# Altium footprint library COMPONENTES.PcbLib: 191 footprints (part 6 of 12)
Each footprint in its own frame and in the unit in brackets; x right, y up, seen from the top. Pads: shape width x height; smd on the part's side, far side on the other; paste and mask are expansions set on the pad; w line width, h text height; cw(c..) or ccw(c..) is an arc to the next point about the centre after c.
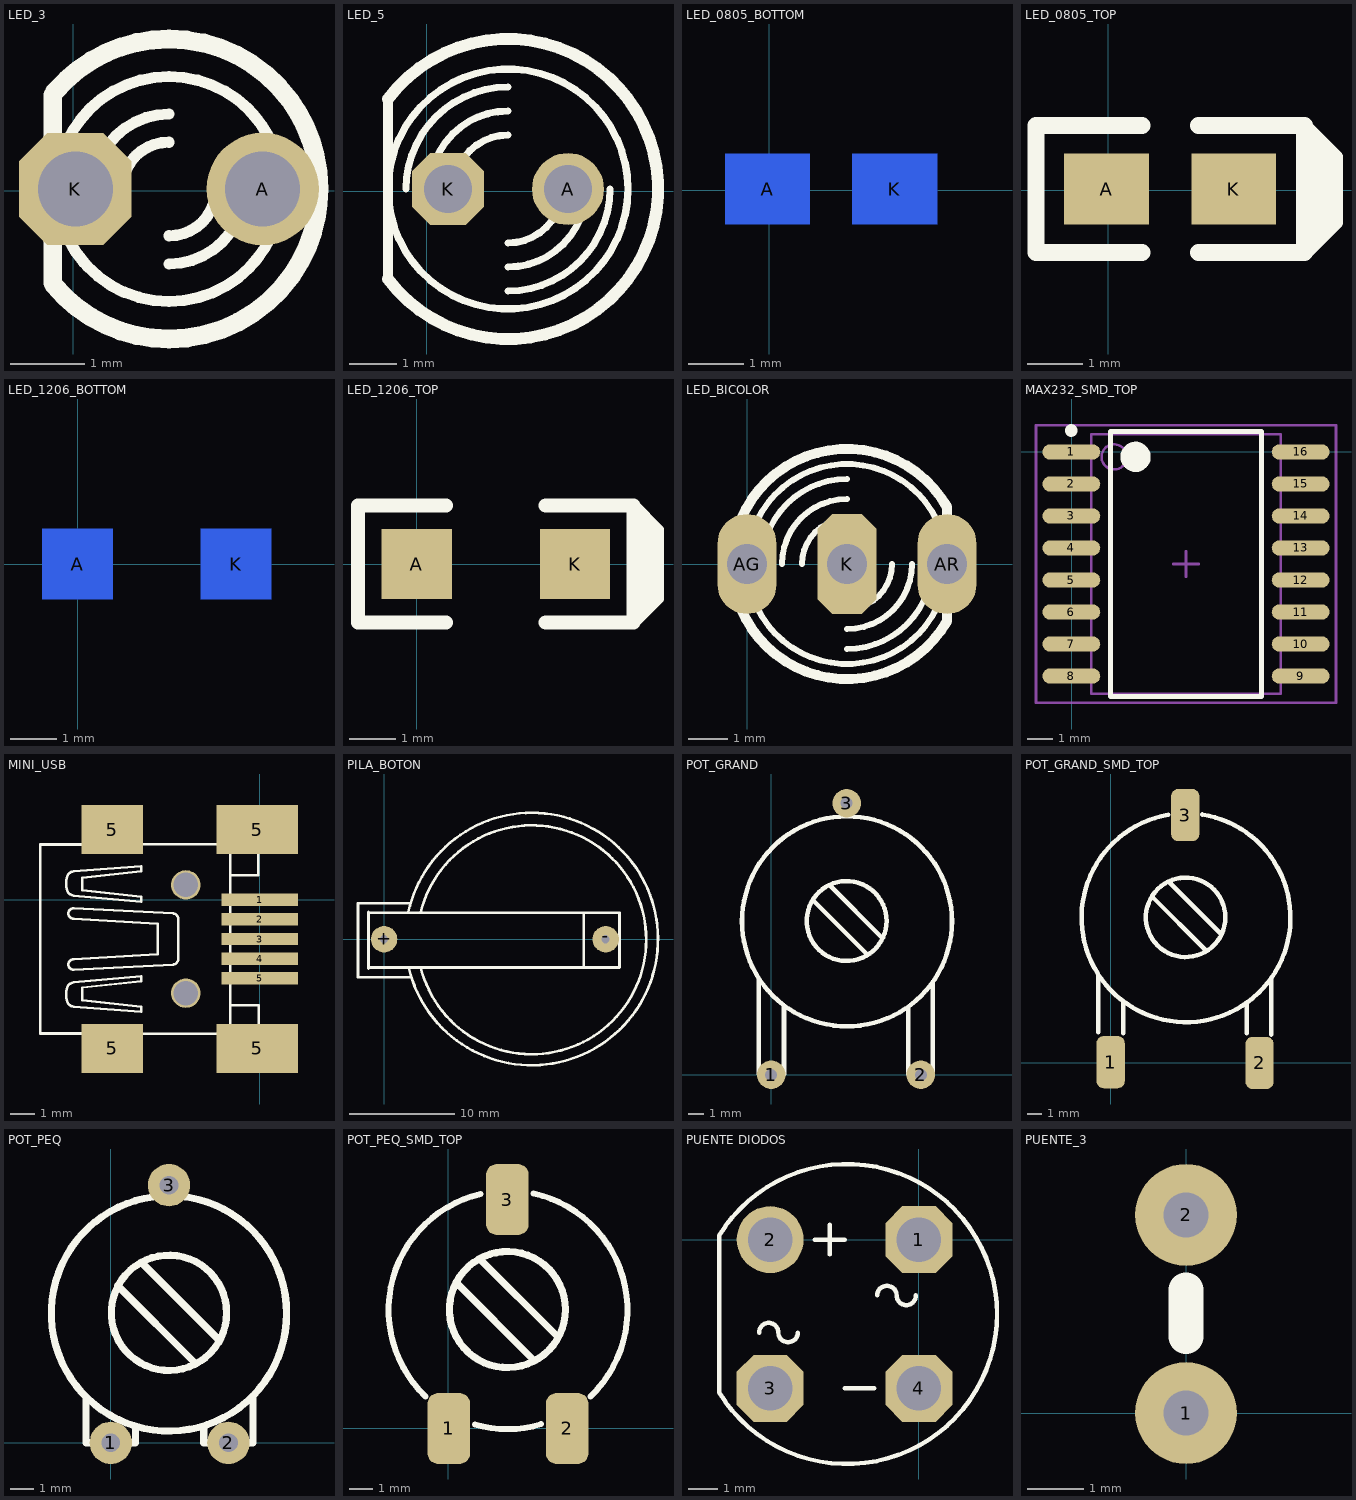
[diagram p5: the footprints below, top view; thin cyan lines are the x and y axes]

## LED_3 [mil]
height 104.33
pads (2):
  round 60 hole 40: A(100.98,0.98)
  oct 60x60 hole 40: K(0.98,0.98)
Top Overlay:
  lines w6: 2.16,-33.89 ccw(c50.98,0.98) 50.98,-59.02 ccw(c50.98,0.98) 98.98,-35.02 ; 3.62,37.82 cw(c50.98,0.98) 50.98,60.98 cw(c50.98,0.98) 98.35,37.82 ; 4.89,39.39 ccw(c50.98,0.98) -9.02,0.98 ccw(c50.98,0.98) 5.43,-38.06 ; 10.98,0.98 cw(c50.98,0.98) 50.98,40.98 ; 25.98,0.98 cw(c50.98,0.98) 50.98,25.98 ; 50.98,-39.02 ccw(c50.98,0.98) 90.98,0.98 ; 50.98,-24.02 ccw(c50.98,0.98) 75.98,0.98 ; 95.83,40.84 cw(c50.98,0.98) 110.98,0.98 cw(c50.98,0.98) 97.08,-37.43
  lines w10: -11.02,-49.02 -11.02,50.98 ; -10.47,-50.23 ccw(c50.98,0.98) 50.98,-79.02 ccw(c50.98,0.98) 121.57,-36.66 ; -10.09,52.66 cw(c50.98,0.98) 50.98,80.98 cw(c50.99,0.98) 120.45,40.68 ; 119.12,42.91 cw(c50.98,0.98) 130.98,0.98 cw(c50.98,0.98) 121.42,-36.95

## LED_5 [mil]
height 104.33
pads (2):
  round 60 hole 40: A(117.72,1.97)
  oct 60x60 hole 40: K(17.72,1.97)
Top Overlay:
  circle w6: c67.72,1.97 r100
  lines w6: -17.28,1.97 cw(c67.72,1.97) 67.72,86.97 ; 2.72,1.97 cw(c67.72,1.97) 67.72,66.97 ; 22.72,1.97 cw(c67.72,1.97) 67.72,46.97 ; 67.72,-83.03 ccw(c67.72,1.97) 152.72,1.97 ; 67.72,-63.03 ccw(c67.72,1.97) 132.72,1.97 ; 67.72,-43.03 ccw(c67.72,1.97) 112.72,1.97
  lines w8: -32.28,-73.03 -32.28,76.97
  lines w10: -32.28,-73.03 ccw(c67.72,1.97) -32.28,76.97

## LED_0805_BOTTOM [mm]
pads (2):
  rect 1.524x1.27 smd far side: A(-0.025,0.025) K(2.261,0.025)
Bottom Overlay:
  region: 3.531,0.5 3.531,-1.092 3.557,-1.118 3.825,-0.85 3.825,0.4 3.725,0.5
  region: 3.825,0.715 3.825,-0.75 4,-0.575 4.1,-0.575 4.1,0.599 3.984,0.715
  lines w0.254: 3.531,-1.118 3.557,-1.118 4.1,-0.575 4.1,0.599 3.531,1.168 ; 3.763,0.936 3.763,0.462 3.825,0.4 ; 3.825,-0.75 3.825,0.715 3.905,0.794
  lines w0.305: 0.61,-1.118 -1.295,-1.118 -1.295,1.168 0.61,1.168 ; 1.626,-1.118 3.531,-1.118 3.531,1.168 1.626,1.168

## LED_0805_TOP [mm]
pads (2):
  rect 1.524x1.27 smd: A(-0.025,0.025) K(2.261,0.025)
Top Overlay:
  region: 3.531,0.5 3.531,-1.092 3.557,-1.118 3.825,-0.85 3.825,0.4 3.725,0.5
  region: 3.825,0.715 3.825,-0.75 4,-0.575 4.1,-0.575 4.1,0.599 3.984,0.715
  lines w0.254: 3.531,-1.118 3.557,-1.118 4.1,-0.575 4.1,0.599 3.531,1.168 ; 3.763,0.936 3.763,0.462 3.825,0.4 ; 3.825,-0.75 3.825,0.715 3.905,0.794
  lines w0.305: 0.61,-1.118 -1.295,-1.118 -1.295,1.168 0.61,1.168 ; 1.626,-1.118 3.531,-1.118 3.531,1.168 1.626,1.168

## LED_1206_BOTTOM [mil]
pads (2):
  rect 60x60 smd far side: A(0,0) K(135,0)
Bottom Overlay:
  region: 185,50 205.71,29.29 205.71,-29.53 185.24,-50 185,-49.76
  lines w10: 185,-50 185.24,-50 205.71,-29.53 205.71,29.29 185,50
  lines w12: 25,-50 -50,-50 -50,50 25,50 ; 110,-50 185,-50 185,50 110,50

## LED_1206_TOP [mil]
pads (2):
  rect 60x60 smd: A(0,0) K(135,0)
Top Overlay:
  region: 185,50 205.71,29.29 205.71,-29.53 185.24,-50 185,-49.76
  lines w10: 185,-50 185.24,-50 205.71,-29.53 205.71,29.29 185,50
  lines w12: 25,-50 -50,-50 -50,50 25,50 ; 110,-50 185,-50 185,50 110,50

## LED_BICOLOR [mil]
height 354.33
pads (3):
  oval 59x100 hole 40: AG(0,0) AR(200,0)
  oct 59x100 hole 40: K(100,0)
Top Overlay:
  lines w6: 15,0 cw(c100,0) 100,85 ; 35,0 cw(c100,0) 100,65 ; 55,0 cw(c100,0) 100,45 ; 100,-85 ccw(c100,0) 185,0 ; 100,-65 ccw(c100,0) 165,0 ; 100,-45 ccw(c100,0) 145,0 ; 6,-34 cw(c100,0) 6,34 cw(c100,0) 194,34 cw(c100,0) 194,-34 cw(c100,0) 6,-34
  lines w10: -10,34 ccw(c100,0) -10,-34 ccw(c100,0) 200.03,-57.01 ; -9.97,33.99 cw(c100,0) 200,57 200,35 ; 200,-57 200,-35 200,37

## MAX232_SMD_TOP [mm]
pads (16):
  oval 2.3x0.6 smd: 1(-0.025,0) 2(-0.025,-1.27) 3(-0.025,-2.54) 4(-0.025,-3.81) 5(-0.025,-5.08) 6(-0.025,-6.35) 7(-0.025,-7.62) 8(-0.025,-8.89) 9(9.075,-8.89) 10(9.075,-7.62) 11(9.075,-6.35) 12(9.075,-5.08) 13(9.075,-3.81) 14(9.075,-2.54) 15(9.075,-1.27) 16(9.075,0)
Top Overlay:
  circle w0.25: c-0.025,0.85 r0.125
  circle w0.6: c2.525,-0.195 r0.3
  lines w0.2: 1.525,-9.695 1.525,0.805 7.525,0.805 7.525,-9.695 1.525,-9.695
Mechanical 13:
  circle w0.1: c1.675,-0.195 r0.5
  lines w0.1: 0.775,-9.595 0.775,0.705 8.275,0.705 8.275,-9.595 0.775,-9.595
Mechanical 15:
  lines w0.1: 4.025,-4.445 5.025,-4.445 ; 4.525,-4.945 4.525,-3.945 ; -1.425,-9.945 -1.425,1.055 10.475,1.055 10.475,-9.945 -1.425,-9.945
3D body: height 2.65, standoff 0, extent 0.775,-9.595 8.275,0.705

## MINI_USB [mm]
height 1.016
pads (11):
  rect 3.1x0.5 smd: 1(0,0) 2(0,-0.8) 3(0,-1.6) 4(0,-2.4) 5(0,-3.2)
  rect 2.5x2 smd: 5(-6,-6.05) 5(-6,2.85)
  rect 3.3x2 smd: 5(-0.1,-6.05) 5(-0.1,2.85)
  round 1.2 hole 1 unplated: ""(-3,-3.8) ""(-3,0.6)
Top Overlay:
  lines w0.102: -7.569,-2.846 cw(c-7.569,-2.638) -7.776,-2.638 cw(c-7.569,-2.638) -7.569,-2.43 -4.142,-2.223 -4.142,-0.977 -7.569,-0.77 cw(c-7.569,-0.562) -7.776,-0.562 cw(c-7.569,-0.562) -7.569,-0.354 ; -7.568,-2.846 -3.519,-2.638 ccw(c-3.531,-2.419) -3.312,-2.431 -3.312,-0.769 ccw(c-3.531,-0.781) -3.519,-0.562 -7.568,-0.354 ; -7.415,-5.441 -8.918,-5.441 ; -7.415,2.241 -8.918,2.242 ; -6.688,-5.441 -8.918,-5.441 ; -6.688,2.242 -8.918,2.242 ; -4.603,-5.447 -1.916,-5.447 ; -4.552,2.247 -2.017,2.247 ; -1.19,-5.447 -1.19,2.18 ; -1.19,-4.924 -1.19,-4.3 -0.043,-4.3 ; -1.19,1.724 -1.19,0.998 -0.06,0.998 ; -0.06,1.724 -0.06,0.998 ; -0.06,2.197 -0.06,0.998 ; -0.043,-5.422 -0.043,-4.3 ; -0.043,-4.932 -0.043,-4.3 ; 0.16,-5.447 -8.923,-5.447 -8.923,2.247 0.16,2.247 ; -8.918,-5.441 -8.918,2.242 ; -8.918,-5.442 -8.918,-5.441 ; -7.828,-4.144 cw(c-6.897,-3.858) -7.828,-3.573 cw(c-7.546,-3.659) -7.569,-3.365 -4.817,-3.105 -4.817,-3.313 -7.205,-3.573 -7.205,-4.092 -4.817,-4.351 -4.817,-4.559 -7.569,-4.351 cw(c-7.546,-4.057) -7.828,-4.144 ; -7.828,0.373 ccw(c-7.546,0.459) -7.569,0.165 -4.817,-0.094 -4.817,0.113 -7.205,0.373 -7.205,0.892 -4.817,1.151 -4.817,1.359 -7.569,1.151 ccw(c-7.546,0.858) -7.828,0.944 ccw(c-6.897,0.658) -7.828,0.373

## PILA_BOTON [mm]
pads (2):
  round 2.5 hole 0.762: +(-0.025,0) -(20.95,0)
Top Overlay:
  lines w0.254: 2.272,2.561 cw(c13.95,0.025) 2.309,-2.675 ; 2.45,3.4 -2.5,3.4 -2.5,-3.6 2.5,-3.6 ; 3.432,2.555 cw(c13.95,-0.05) 3.443,-2.696 ; 18.875,-2.675 18.875,2.525 ; -1.5,-2.775 -1.4,-2.675 22.25,-2.675 22.25,2.525 -1.45,2.525 -1.5,2.575 -1.5,-2.775

## POT_GRAND [mm]
height 2.65
pads (3):
  round 1.9 hole 0.8: 1(0,0) 2(9.975,0) 3(5.025,18.1)
Top Overlay:
  circle w0.305: c5.025,10.25 r2.662
  circle w0.305: c5.05,10.225 r7
  lines w0.305: -0.825,6.35 -0.825,0.025 0.85,0.025 0.85,4.575 ; 2.775,11.65 6.35,8.075 ; 3.9,12.625 7.375,9.15 ; 9.125,4.475 9.125,0.025 10.775,0.025 10.775,6.2

## POT_GRAND_SMD_TOP [mm]
pads (3):
  rrect50% 1.9x3.5 smd: 1(0,0.025) 2(9.975,-0.025) 3(5,16.575)
Top Overlay:
  circle w0.305: c5.025,9.725 r2.662
  lines w0.305: -0.825,2.025 -0.825,5.825 ; 0.85,1.975 0.85,4.05 ; 2.775,11.125 6.35,7.55 ; 3.848,16.596 ccw(c5.05,9.7) 6.131,16.616 ; 3.9,12.1 7.375,8.625 ; 9.125,1.95 9.125,3.95 ; 10.775,1.875 10.775,5.675

## POT_PEQ [mm]
height 2.65
pads (3):
  round 1.8 hole 0.8: 1(0,0) 2(5,0) 3(2.475,10.95)
Top Overlay:
  circle w0.305: c2.475,5.525 r2.45
  circle w0.305: c2.475,5.5 r5
  lines w0.305: -1.05,1.9 -1.05,0 1.05,0 1.05,0.625 ; 0.3,6.675 3.6,3.375 ; 1.3,7.675 4.55,4.425 ; 3.95,0.65 3.95,0 6.05,0 6.05,2

## POT_PEQ_SMD_TOP [mm]
pads (3):
  rrect50% 1.8x3 smd: 1(0.025,0) 2(5.025,0) 3(2.5,9.675)
Top Overlay:
  circle w0.305: c2.5,5.025 r2.45
  lines w0.254: -0.967,1.358 cw(c2.525,5) 1.369,9.911 ; 1.123,0.169 ccw(c2.5,4.95) 3.92,0.181 ; 3.606,9.928 cw(c2.525,5) 6.017,1.358
  lines w0.305: 0.325,6.175 3.625,2.875 ; 1.325,7.175 4.575,3.925

## PUENTE DIODOS [mil]
height 5
pads (4):
  oct 90x90 hole 60: 1(0,0) 3(-200,-200) 4(0,-200)
  round 90 hole 60: 2(-200,0)
Top Overlay:
  lines w6: -215,-125 cw(c-202,-125) -189,-125 ccw(c-176,-125) -163,-125 ; -140,0 -100,0 ; -120,-20 -120,20 ; -100,-200 -60,-200 ; -56,-75 cw(c-43,-75) -30,-75 ccw(c-17,-75) -4,-75 ; -268.74,-205.35 ccw(c-96.72,-100) -268.74,5.35 -268.74,-205.35

## PUENTE_3 [mm]
height 2.65
pads (2):
  round 1.8 hole 0.8: 1(0,0) 2(0,3.5)
Top Overlay:
  lines w0.61: 0,1.35 0,2.178